# Altium schematic symbol library ACS711KLCTR-12AB-T.Schlib: 1 symbol
Pins are listed as number, name and electrical type; pins without a type are passive.

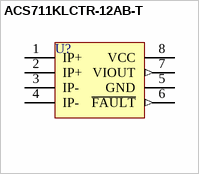
[diagram p0: symbol ACS711KLCTR-12AB-T]

## ACS711KLCTR-12AB-T
designator U?
Hall Effect Linear Current Sensor
pins: 1 IP+ "Terminals for current being sensed; fused internally", 2 IP+ "Terminals for current being sensed; fused internally", 3 IP- "Terminals for current being sensed; fused internally", 4 IP- "Terminals for current being sensed; fused internally", 5 GND (power) "Signal ground terminal", 6 ~{FAULT} (out) "Overcurrent fault; active low", 7 VIOUT (out) "Analog output signal", 8 VCC (power) "Device power supply terminal"